# EAGLE library part PIN_1X7 (library FaBo-PIN)
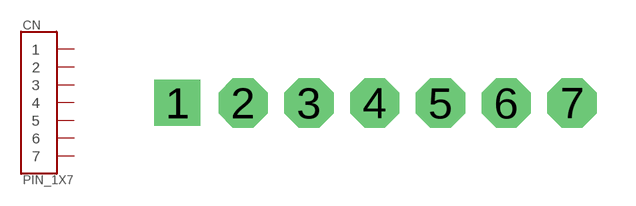
[diagram p16: symbol with the pads of PIN_1X7; footprint PIN_1X7]

Designator prefix CN

## PIN_1X7  [PIN_1X7]
1  1
2  2
3  3
4  4
5  5
6  6
7  7

## Footprint PIN_1X7 (pad centres in mm)
drill 1.1 pad 1.778 square: 1 -7.62,0
drill 1.1 pad 1.9 octagon: 2 -5.08,0; 3 -2.54,0; 4 0,0; 5 2.54,0; 6 5.08,0; 7 7.62,0